# Altium footprint library B3B-ZR.PcbLib: 1 footprints
Each footprint in its own frame and in the unit in brackets; x right, y up, seen from the top. Pads: shape width x height; smd on the part's side, far side on the other; paste and mask are expansions set on the pad; w line width, h text height; cw(c..) or ccw(c..) is an arc to the next point about the centre after c.
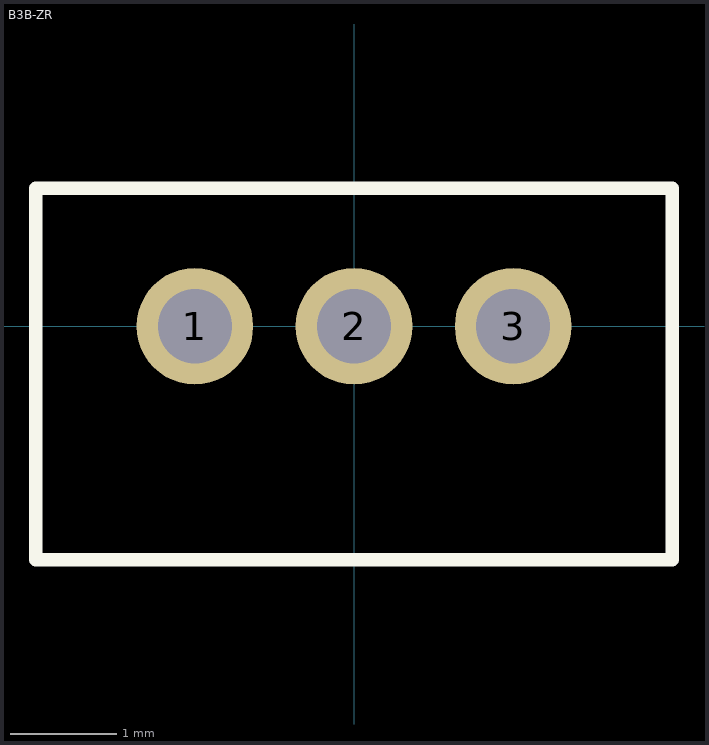
[diagram p0: the footprint, top view; thin cyan lines are the x and y axes]

## B3B-ZR [mm]
pads (3):
  round 1.1 hole 0.7: 1(-1.5,0) 2(0,0) 3(1.5,0)
Top Overlay:
  lines w0.127: -3,-2.2 3,-2.2 3,1.3 -3,1.3 -3,-2.2
3D body "step_temp.STEP": height 4.5, standoff -2.7, extent -3,-2.258 3,1.242